# Altium schematic symbol library Schematic library.SchLib: 3 symbols
Pins are listed as number, name and electrical type; pins without a type are passive.

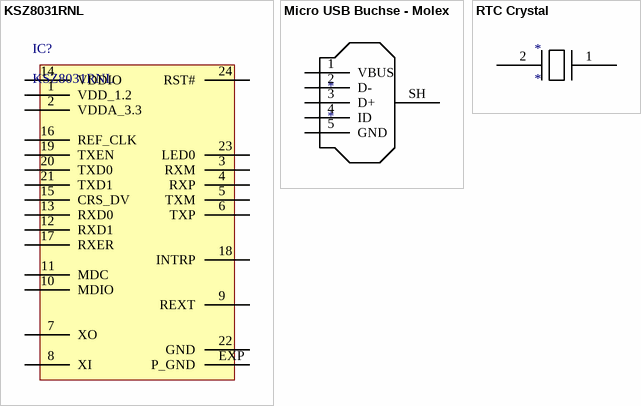
[diagram p0: symbols KSZ8031RNL to RTC Crystal]

## KSZ8031RNL
designator IC?
footprint QFN /MLF 24pin
pins: 1 VDD_1.2, 2 VDDA_3.3, 3 RXM, 4 RXP, 5 TXM, 6 TXP, 7 XO, 8 XI, 9 REXT, 10 MDIO, 11 MDC, 12 RXD1, 13 RXD0, 14 VDDIO, 15 CRS_DV, 16 REF_CLK, 17 RXER, 18 INTRP, 19 TXEN, 20 TXD0, 21 TXD1, 22 GND, 23 LED0, 24 RST#, EXP P_GND

## Micro USB Buchse - Molex
designator *
footprint Micro USB Buchse - Molex
pins: 1 VBUS, 2 D-, 3 D+, 4 ID, 5 GND, SH

## RTC Crystal
designator *
footprint RTC Uhrenquarz  1.5x3.2 SMD
pins: 1, 2